# Altium schematic symbol library 220AMA16R.SchLib: 1 symbol
Pins are listed as number, name and electrical type; pins without a type are passive.

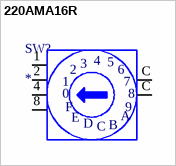
[diagram p0: symbol 220AMA16R]

## 220AMA16R
designator SW?
Value: *
pins: 1, 2, 4, 8, C, C
text: 3; 5; 6; 7; 0; F; 9; E; A; D; B